# Altium schematic symbol library lib.SchLib: 13 symbols
Pins are listed as number, name and electrical type; pins without a type are passive.

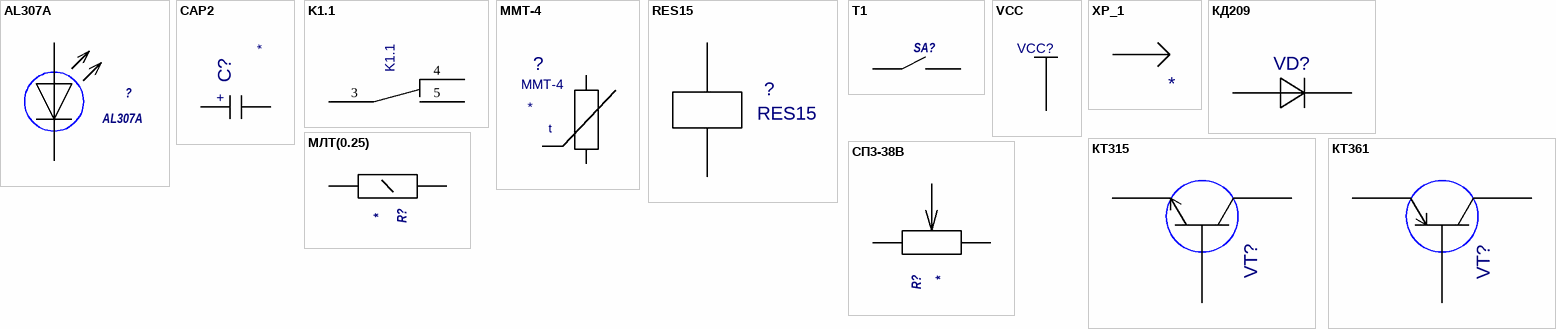
[diagram p0: symbols AL307A to СП3-38В]

## AL307A
designator ?
Value: *
footprint АЛ307
pins: 1, 2

## CAP2
designator C?  (value not drawn)
Value: *
footprint CAP2
pins: 1, 2
text: +

## K1.1
designator ?
Value: *
footprint K1.1
pins: 3, 4, 5

## MMT-4
designator ?
Value: *
footprint MMT-4
pins: 1 I/O1, 2 I/O0
text: t

## RES15
designator ?
Value: *
footprint RES15
pins: 1 A, 2 B, 3 hidden, 4 hidden, 5 hidden

## T1
designator SA?  (value not drawn)
Value: *
footprint Т1
pins: 1, 2

## VCC
designator VCC?  (value not drawn)
Value: *
pins: 1 (power)

## XP_1
designator ?  (value not drawn)
Value: *
footprint XP_1
pins: 1 A1

## КД209
designator VD?  (value not drawn)
Value: *
footprint DO-7
pins: 1 K, 2 A

## КТ315
designator VT?  (value not drawn)
Value: *
footprint КТ315
pins: 1 A1, 2 A2, 3 A3

## КТ361
designator VT?  (value not drawn)
Value: *
footprint КТ315
pins: 1 A1, 2 A2, 3 A3

## МЛТ(0.25)
designator R?  (value not drawn)
Value: *
footprint МЛТ(0.25)
pins: 1, 2

## СП3-38В
designator R?  (value not drawn)
Value: *
footprint СП3-38В
pins: 1, 2, 3